# EAGLE library part PIC18F14K50 (library pic18f14k50)
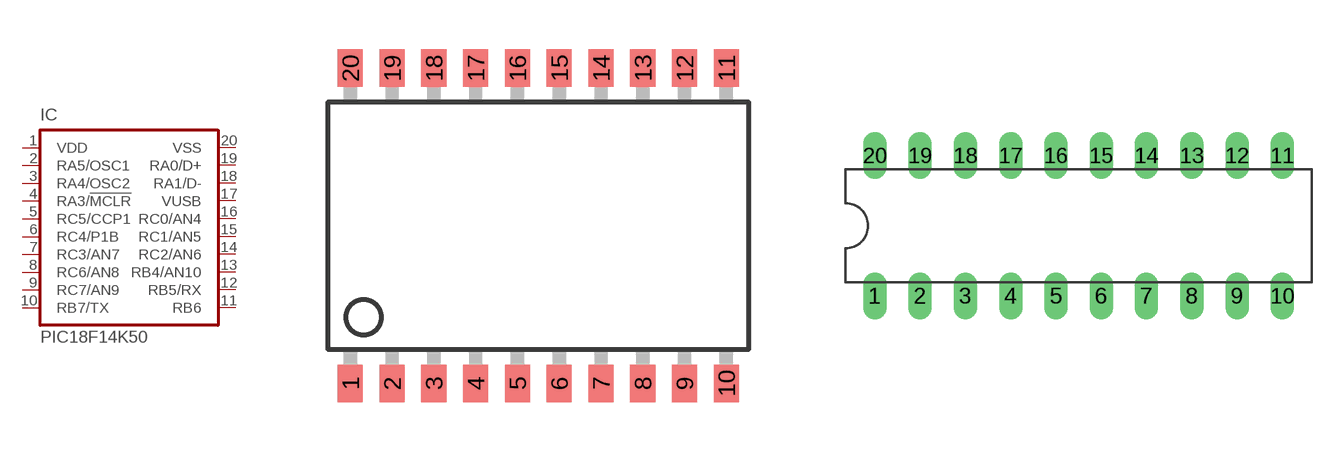
[diagram p0: symbol with the pads of SO20; footprints SO20, DIL20]

Designator prefix IC

## PIC18F14K50SO  [SO20]
1  VDD  pwr
2  RA5/OSC1
3  RA4/OSC2
4  RA3/!MCLR!
5  RC5/CCP1
6  RC4/P1B
7  RC3/AN7
8  RC6/AN8
9  RC7/AN9
10  RB7/TX
11  RB6
12  RB5/RX
13  RB4/AN10
14  RC2/AN6
15  RC1/AN5
16  RC0/AN4
17  VUSB
18  RA1/D-
19  RA0/D+
20  VSS  pwr

## PIC18F14K50P  [DIL20]
Pads as for SO20

## Footprint SO20 (pad centres in mm)
smd 0.762 x 1.143: 1 -5.08,-4.788; 2 -3.81,-4.788; 3 -2.54,-4.788; 4 -1.27,-4.788; 5 0,-4.788; 6 1.27,-4.788; 7 2.54,-4.788; 8 3.81,-4.788; 9 5.08,-4.788; 10 6.35,-4.788; 11 6.35,4.788; 12 5.08,4.788; 13 3.81,4.788; 14 2.54,4.788; 15 1.27,4.788; 16 0,4.788; 17 -1.27,4.788; 18 -2.54,4.788; 19 -3.81,4.788; 20 -5.08,4.788

## Footprint DIL20 (pad centres in mm)
drill 0.813 long: 1 -11.43,-3.937; 2 -8.89,-3.937; 3 -6.35,-3.937; 4 -3.81,-3.937; 5 -1.27,-3.937; 6 1.27,-3.937; 7 3.81,-3.937; 8 6.35,-3.937; 9 8.89,-3.937; 10 11.43,-3.937; 11 11.43,3.937; 12 8.89,3.937; 13 6.35,3.937; 14 3.81,3.937; 15 1.27,3.937; 16 -1.27,3.937; 17 -3.81,3.937; 18 -6.35,3.937; 19 -8.89,3.937; 20 -11.43,3.937